# EAGLE library part 253-114/000-005 (library con-wago_253)
Stand: 01.01.2014. Die jeweils aktuellen Daten zu diesem Artikel finden Sie in unserem Produktkatalog, den Sie unter www.wago.com einsehen können. As of: 01/01/2014. Please find the newest data for this article in our product catalogue, which can be viewed under www.wago.com.
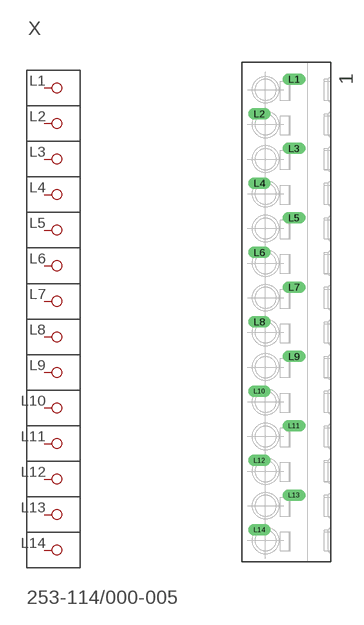
[diagram p41: symbol with the pads of P-253-114; footprint P-253-114]

Designator prefix X

## 253-114/000-005  [P-253-114]
L1  P1
L2  P2
L3  P3
L4  P4
L5  P5
L6  P6
L7  P7
L8  P8
L9  P9
L10  P10
L11  P11
L12  P12
L13  P13
L14  P14

## Footprint P-253-114 (pad centres in mm)
drill 1.1 long: L1 1.1,33.6; L2 -3.9,28.6; L3 1.1,23.6; L4 -3.9,18.6; L5 1.1,13.6; L6 -3.9,8.6; L7 1.1,3.6; L8 -3.9,-1.4; L9 1.1,-6.4; L10 -3.9,-11.4; L11 1.1,-16.4; L12 -3.9,-21.4; L13 1.1,-26.4; L14 -3.9,-31.4